# EAGLE library part 8_2_PIN_CON (library 11_pin_connecterp)
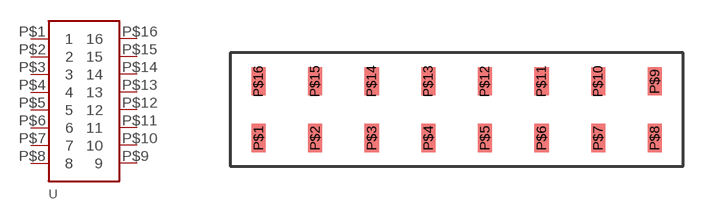
[diagram p4: symbol with the pads of 8_2_PIN; footprint 8_2_PIN]

Designator prefix -

## 8_2_PIN_CON  [8_2_PIN]
P$1  1
P$2  2
P$3  3
P$4  4
P$5  5
P$6  6
P$7  7
P$8  8
P$9  9
P$10  10
P$11  11
P$12  12
P$13  13
P$14  14
P$15  15
P$16  16

## Footprint 8_2_PIN (pad centres in mm)
smd 0.635 x 1.27: P$1 -8.89,-1.27; P$2 -6.35,-1.27; P$3 -3.81,-1.27; P$4 -1.27,-1.27; P$5 1.27,-1.27; P$6 3.81,-1.27; P$7 6.35,-1.27; P$8 8.89,-1.27; P$9 8.89,1.27; P$10 6.35,1.27; P$11 3.81,1.27; P$12 1.27,1.27; P$13 -1.27,1.27; P$14 -3.81,1.27; P$15 -6.35,1.27; P$16 -8.89,1.27